# Altium schematic symbol library RCM06.Schlib: 1 symbol
Pins are listed as number, name and electrical type; pins without a type are passive.

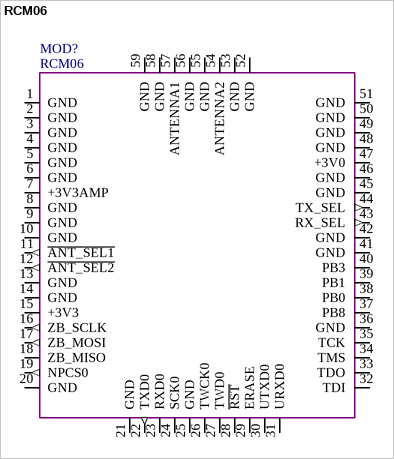
[diagram p0: symbol RCM06]

## RCM06
designator MOD?
IEEE 802.15.4 compliant RF module -40 to +85 degC
pins: 1 GND (power), 2 GND (power), 3 GND (power), 4 GND (power), 5 GND (power), 6 GND (power), 7 +3V3AMP (power), 8 GND (power), 9 GND (power), 10 GND (power), 11 ~{ANT_SEL1} (out), 12 ~{ANT_SEL2} (out), 13 GND (power), 14 GND (power), 15 +3V3 (power), 16 ZB_SCLK (out), 17 ZB_MOSI (out), 18 ZB_MISO, 19 NPCS0 (out), 20 GND (power), 21 GND (power), 22 TXD0 (out), 23 RXD0, 24 SCK0, 25 GND (power), 26 TWCK0 (oc), 27 TWD0 (oc), 28 ~{RST}, 29 ERASE, 30 UTXD0, 31 URXD0, 32 TDI, 33 TDO, 34 TMS, 35 TCK, 36 GND (power), 37 PB8 (io), 38 PB0 (io), 39 PB1 (io), 40 PB3 (io), 41 GND (power), 42 GND (power), 43 RX_SEL (out), 44 TX_SEL (out), 45 GND (power), 46 GND (power), 47 +3V0 (power), 48 GND (power), 49 GND (power), 50 GND (power), 51 GND (power), 52 GND (power), 53 GND (power), 54 ANTENNA2, 55 GND (power), 56 GND (power), 57 ANTENNA1, 58 GND (power), 59 GND (power)